# Altium schematic symbol library K210.SchLib: 1 symbol
Pins are listed as number, name and electrical type; pins without a type are passive.

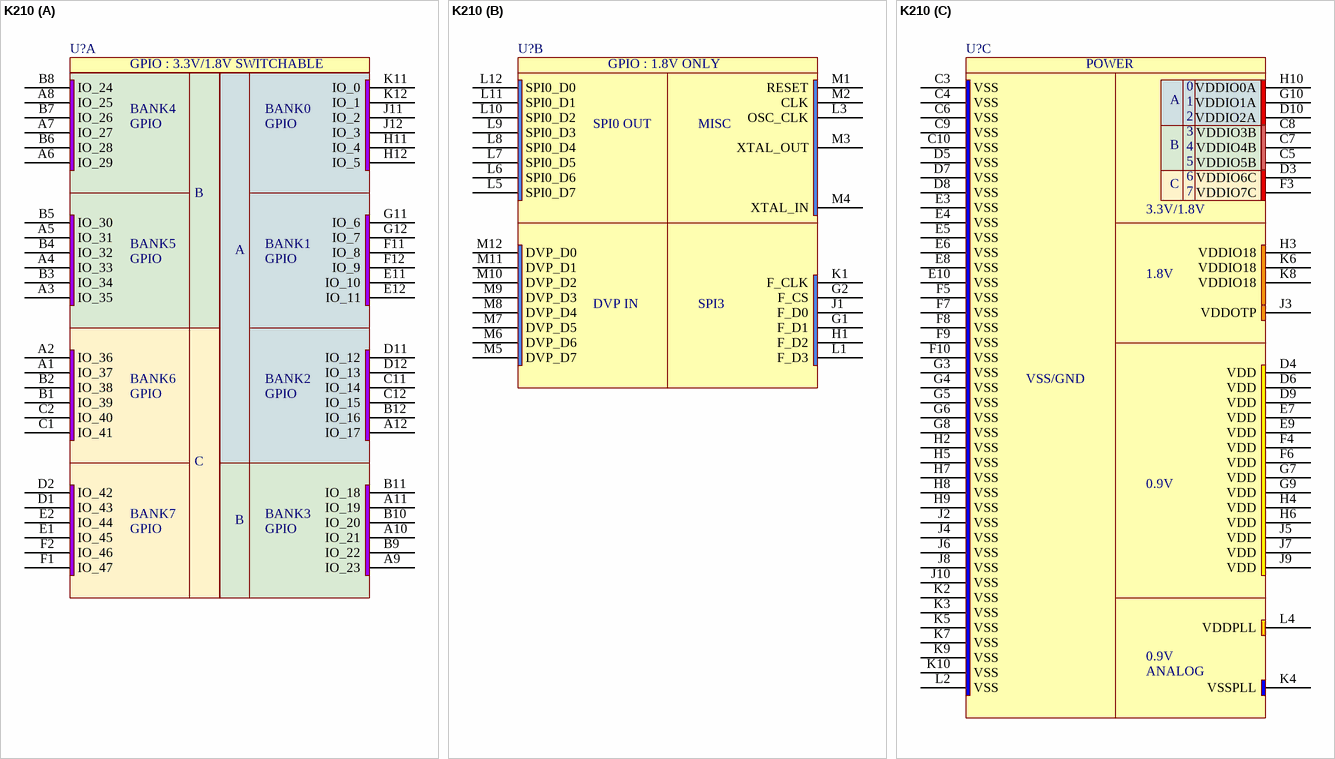
[diagram p0: symbol K210]

## K210
designator U?
part A pins: A1 IO_37 "Voltage switchable GPIO for FPIOA (3.3V or 1.8V). After reset is :  GPIOHS21.", A2 IO_36 "Voltage switchable GPIO for FPIOA (3.3V or 1.8V). After reset is :  GPIOHS20.", A3 IO_35 "Voltage switchable GPIO for FPIOA (3.3V or 1.8V). After reset is :  GPIOHS19.", A4 IO_33 "Voltage switchable GPIO for FPIOA (3.3V or 1.8V). After reset is :  GPIOHS17.", A5 IO_31 "Voltage switchable GPIO for FPIOA (3.3V or 1.8V). After reset is :  GPIOHS15.", A6 IO_29 "Voltage switchable GPIO for FPIOA (3.3V or 1.8V). After reset is :  GPIOHS13.", A7 IO_27 "Voltage switchable GPIO for FPIOA (3.3V or 1.8V). After reset is :  GPIOHS11.", A8 IO_25 "Voltage switchable GPIO for FPIOA (3.3V or 1.8V). After reset is :  GPIOHS9.", A9 IO_23 "Voltage switchable GPIO for FPIOA (3.3V or 1.8V). After reset is :  GPIOHS7.", A10 IO_21 "Voltage switchable GPIO for FPIOA (3.3V or 1.8V). After reset is :  GPIOHS5.", A11 IO_19 "Voltage switchable GPIO for FPIOA (3.3V or 1.8V). After reset is :  GPIOHS3.", A12 IO_17 "Voltage switchable GPIO for FPIOA (3.3V or 1.8V). After reset is :  GPIOHS1.", B1 IO_39 "Voltage switchable GPIO for FPIOA (3.3V or 1.8V). After reset is :  GPIOHS23.", B2 IO_38 "Voltage switchable GPIO for FPIOA (3.3V or 1.8V). After reset is :  GPIOHS22.", B3 IO_34 "Voltage switchable GPIO for FPIOA (3.3V or 1.8V). After reset is :  GPIOHS18.", B4 IO_32 "Voltage switchable GPIO for FPIOA (3.3V or 1.8V). After reset is :  GPIOHS16.", B5 IO_30 "Voltage switchable GPIO for FPIOA (3.3V or 1.8V). After reset is :  GPIOHS14.", B6 IO_28 "Voltage switchable GPIO for FPIOA (3.3V or 1.8V). After reset is :  GPIOHS12.", B7 IO_26 "Voltage switchable GPIO for FPIOA (3.3V or 1.8V). After reset is :  GPIOHS10.", B8 IO_24 "Voltage switchable GPIO for FPIOA (3.3V or 1.8V). After reset is :  GPIOHS8.", B9 IO_22 "Voltage switchable GPIO for FPIOA (3.3V or 1.8V). After reset is :  GPIOHS6.", B10 IO_20 "Voltage switchable GPIO for FPIOA (3.3V or 1.8V). After reset is :  GPIOHS4.", B11 IO_18 "Voltage switchable GPIO for FPIOA (3.3V or 1.8V). After reset is :  GPIOHS2.", B12 IO_16 "Voltage switchable GPIO for FPIOA (3.3V or 1.8V). After reset is :  GPIOHS0.", C1 IO_41 "Voltage switchable GPIO for FPIOA (3.3V or 1.8V). After reset is :  GPIOHS25.", C2 IO_40 "Voltage switchable GPIO for FPIOA (3.3V or 1.8V). After reset is :  GPIOHS24.", C11 IO_14 "Voltage switchable GPIO for FPIOA (3.3V or 1.8V). After reset is :  GPIO6.", C12 IO_15 "Voltage switchable GPIO for FPIOA (3.3V or 1.8V). After reset is :  GPIO7.", D1 IO_43 "Voltage switchable GPIO for FPIOA (3.3V or 1.8V). After reset is :  GPIOHS27.", D2 IO_42 "Voltage switchable GPIO for FPIOA (3.3V or 1.8V). After reset is :  GPIOHS26.", D11 IO_12 "Voltage switchable GPIO for FPIOA (3.3V or 1.8V). After reset is :  GPIO4.", D12 IO_13 "Voltage switchable GPIO for FPIOA (3.3V or 1.8V). After reset is :  GPIO5.", E1 IO_45 "Voltage switchable GPIO for FPIOA (3.3V or 1.8V). After reset is :  GPIOHS29.", E2 IO_44 "Voltage switchable GPIO for FPIOA (3.3V or 1.8V). After reset is :  GPIOHS28.", E11 IO_10 "Voltage switchable GPIO for FPIOA (3.3V or 1.8V). After reset is :  GPIO2.", E12 IO_11 "Voltage switchable GPIO for FPIOA (3.3V or 1.8V). After reset is :  GPIO3.", F1 IO_47 "Voltage switchable GPIO for FPIOA (3.3V or 1.8V). After reset is :  GPIOHS31.", F2 IO_46 "Voltage switchable GPIO for FPIOA (3.3V or 1.8V). After reset is :  GPIOHS30.", F11 IO_8 "Voltage switchable GPIO for FPIOA (3.3V or 1.8V). After reset is :  GPIO0.", F12 IO_9 "Voltage switchable GPIO for FPIOA (3.3V or 1.8V). After reset is :  GPIO1.", G11 IO_6 "Voltage switchable GPIO for FPIOA (3.3V or 1.8V). After reset is :  (FLOAT*).", G12 IO_7 "Voltage switchable GPIO for FPIOA (3.3V or 1.8V). After reset is :  (FLOAT*).", H11 IO_4 "Voltage switchable GPIO for FPIOA (3.3V or 1.8V). After reset is :  UARTHS_RX.", H12 IO_5 "Voltage switchable GPIO for FPIOA (3.3V or 1.8V). After reset is :  UARTHS_TX.", J11 IO_2 "Voltage switchable GPIO for FPIOA (3.3V or 1.8V). After reset is :  JTAG_TMS.", J12 IO_3 "Voltage switchable GPIO for FPIOA (3.3V or 1.8V). After reset is :  JTAG_TDO.", K11 IO_0 "Voltage switchable GPIO for FPIOA (3.3V or 1.8V). After reset is :  JTAG_TCLK.", K12 IO_1 "Voltage switchable GPIO for FPIOA (3.3V or 1.8V). After reset is :  JTAG_TDI."
part B pins: G1 F_D1 "Fixed 1.8V GPIO for SPI. After reset is :  F_D1.", G2 F_CS "Fixed 1.8V GPIO for SPI. After reset is :  F_CS.", H1 F_D2 "Fixed 1.8V GPIO for SPI. After reset is :  F_D2.", J1 F_D0 "Fixed 1.8V GPIO for SPI. After reset is :  F_D0.", K1 F_CLK "Fixed 1.8V GPIO for SPI. After reset is :  F_CLK.", L1 F_D3 "Fixed 1.8V GPIO for SPI. After reset is :  F_D3.", L3 OSC_CLK "Clock output for oscillator, based on external crystal. After reset is :  OSC_CLK.", L5 SPI0_D7 "Output only GPIO for SPI0 D7. After reset is :  (FLOAT*).", L6 SPI0_D6 "Output only GPIO for SPI0 D6. After reset is :  (FLOAT*).", L7 SPI0_D5 "Output only GPIO for SPI0 D5. After reset is :  (FLOAT*).", L8 SPI0_D4 "Output only GPIO for SPI0 D4. After reset is :  (FLOAT*).", L9 SPI0_D3 "Output only GPIO for SPI0 D3. After reset is :  (FLOAT*).", L10 SPI0_D2 "Output only GPIO for SPI0 D2. After reset is :  (FLOAT*).", L11 SPI0_D1 "Output only GPIO for SPI0 D1. After reset is :  (FLOAT*).", L12 SPI0_D0 "Output only GPIO for SPI0 D0. After reset is :  (FLOAT*).", M1 RESET "System Reset (LOW reset). After reset is :  RESET.", M2 CLK "System clock input. After reset is :  CLK.", M3 XTAL_OUT "External crystal output, non fail-safe, can't connect active signal during power failure. After reset is :  XTAL_OUT.", M4 XTAL_IN "External crystal input, non fail-safe, can't connect active signal during power failure. After reset is :  XTAL_IN.", M5 DVP_D7 "Input only GPIO for DVP D7. After reset is :  (FLOAT*).", M6 DVP_D6 "Input only GPIO for DVP D6. After reset is :  (FLOAT*).", M7 DVP_D5 "Input only GPIO for DVP D5. After reset is :  (FLOAT*).", M8 DVP_D4 "Input only GPIO for DVP D4. After reset is :  (FLOAT*).", M9 DVP_D3 "Input only GPIO for DVP D3. After reset is :  (FLOAT*).", M10 DVP_D2 "Input only GPIO for DVP D2. After reset is :  (FLOAT*).", M11 DVP_D1 "Input only GPIO for DVP D1. After reset is :  (FLOAT*).", M12 DVP_D0 "Input only GPIO for DVP D0. After reset is :  (FLOAT*)."
part C pins: C3 VSS (power) "Ground. After reset is :  VSS.", C4 VSS (power) "Ground. After reset is :  VSS.", C5 VDDIO5B (power) "3.3V Power supply for voltage switchable GPIO. After reset is :  VDDIO33.", C6 VSS (power) "Ground. After reset is :  VSS.", C7 VDDIO4B (power) "3.3V Power supply for voltage switchable GPIO. After reset is :  VDDIO33.", C8 VDDIO3B (power) "3.3V Power supply for voltage switchable GPIO. After reset is :  VDDIO33.", C9 VSS (power) "Ground. After reset is :  VSS.", C10 VSS (power) "Ground. After reset is :  VSS.", D3 VDDIO6C (power) "3.3V Power supply for voltage switchable GPIO. After reset is :  VDDIO33.", D4 VDD (power) "0.9V Power supply for digital core. After reset is :  VDD.", D5 VSS (power) "Ground. After reset is :  VSS.", D6 VDD (power) "0.9V Power supply for digital core. After reset is :  VDD.", D7 VSS (power) "Ground. After reset is :  VSS.", D8 VSS (power) "Ground. After reset is :  VSS.", D9 VDD (power) "0.9V Power supply for digital core. After reset is :  VDD.", D10 VDDIO2A (power) "3.3V Power supply for voltage switchable GPIO. After reset is :  VDDIO33.", E3 VSS (power) "Ground. After reset is :  VSS.", E4 VSS (power) "Ground. After reset is :  VSS.", E5 VSS (power) "Ground. After reset is :  VSS.", E6 VSS (power) "Ground. After reset is :  VSS.", E7 VDD (power) "0.9V Power supply for digital core. After reset is :  VDD.", E8 VSS (power) "Ground. After reset is :  VSS.", E9 VDD (power) "0.9V Power supply for digital core. After reset is :  VDD.", E10 VSS (power) "Ground. After reset is :  VSS.", F3 VDDIO7C (power) "3.3V Power supply for voltage switchable GPIO. After reset is :  VDDIO33.", F4 VDD (power) "0.9V Power supply for digital core. After reset is :  VDD.", F5 VSS (power) "Ground. After reset is :  VSS.", F6 VDD (power) "0.9V Power supply for digital core. After reset is :  VDD.", F7 VSS (power) "Ground. After reset is :  VSS.", F8 VSS (power) "Ground. After reset is :  VSS.", F9 VSS (power) "Ground. After reset is :  VSS.", F10 VSS (power) "Ground. After reset is :  VSS.", G3 VSS (power) "Ground. After reset is :  VSS.", G4 VSS (power) "Ground. After reset is :  VSS.", G5 VSS (power) "Ground. After reset is :  VSS.", G6 VSS (power) "Ground. After reset is :  VSS.", G7 VDD (power) "0.9V Power supply for digital core. After reset is :  VDD.", G8 VSS (power) "Ground. After reset is :  VSS.", G9 VDD (power) "0.9V Power supply for digital core. After reset is :  VDD.", G10 VDDIO1A (power) "3.3V Power supply for voltage switchable GPIO. After reset is :  VDDIO33.", H2 VSS (power) "Ground. After reset is :  VSS.", H3 VDDIO18 (power) "1.8V Power supply for GPIO. After reset is :  VDDIO18.", H4 VDD (power) "0.9V Power supply for digital core. After reset is :  VDD.", H5 VSS (power) "Ground. After reset is :  VSS.", H6 VDD (power) "0.9V Power supply for digital core. After reset is :  VDD.", H7 VSS (power) "Ground. After reset is :  VSS.", H8 VSS (power) "Ground. After reset is :  VSS.", H9 VSS (power) "Ground. After reset is :  VSS.", H10 VDDIO0A (power) "3.3V Power supply for voltage switchable GPIO. After reset is :  VDDIO33.", J2 VSS (power) "Ground. After reset is :  VSS.", J3 VDDOTP (power) "1.8V Power supply for OTP. After reset is :  VDDOTP.", J4 VSS (power) "Ground. After reset is :  VSS.", J5 VDD (power) "0.9V Power supply for digital core. After reset is :  VDD.", J6 VSS (power) "Ground. After reset is :  VSS.", J7 VDD (power) "0.9V Power supply for digital core. After reset is :  VDD.", J8 VSS (power) "Ground. After reset is :  VSS.", J9 VDD (power) "0.9V Power supply for digital core. After reset is :  VDD.", J10 VSS (power) "Ground. After reset is :  VSS.", K2 VSS (power) "Ground. After reset is :  VSS.", K3 VSS (power) "Ground. After reset is :  VSS.", K4 VSSPLL (power) "Analog Ground. for PLL. After reset is :  VSSPLL.", K5 VSS (power) "Ground. After reset is :  VSS.", K6 VDDIO18 (power) "1.8V Power supply for GPIO. After reset is :  VDDIO18.", K7 VSS (power) "Ground. After reset is :  VSS.", K8 VDDIO18 (power) "1.8V Power supply for GPIO. After reset is :  VDDIO18.", K9 VSS (power) "Ground. After reset is :  VSS.", K10 VSS (power) "Ground. After reset is :  VSS.", L2 VSS (power) "Ground. After reset is :  VSS.", L4 VDDPLL (power) "0.9V Analog Power supply for PLL. After reset is :  VDDPLL."
part A text: GPIO : 3.3V/1.8V SWITCHABLE; BANK4; BANK0; GPIO; B; BANK5; BANK1; A; BANK6; BANK2; C; BANK7; BANK3
part B text: GPIO : 1.8V ONLY; SPI0 OUT; MISC; DVP IN; SPI3
part C text: POWER; 0; A; 1; 2; 3; B; 4; 5; 6; C; 7; 3.3V/1.8V; 1.8V; VSS/GND; 0.9V; ANALOG